# Altium schematic symbol library LSM6DSO.SchLib: 1 symbol
Pins are listed as number, name and electrical type; pins without a type are passive.

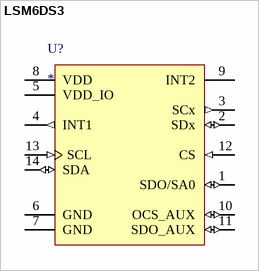
[diagram p0: symbol LSM6DS3]

## LSM6DS3
designator U?
IMU ACCEL/GYRO I2C/SPI 14VFLGA
footprint LSM6DSO
pins: 1 SDO/SA0 (io), 2 SDx (io), 3 SCx (out), 4 INT1 (out) "Programmable interrupt 1", 5 VDD_IO (power) "Power supply for I/O pins", 6 GND (power), 7 GND (power), 8 VDD (power) "Power supply", 9 INT2, 10 OCS_AUX (io), 11 SDO_AUX (io), 12 CS (in), 13 SCL (in), 14 SDA (io)